# EAGLE library part OV7670 (library camera-module)
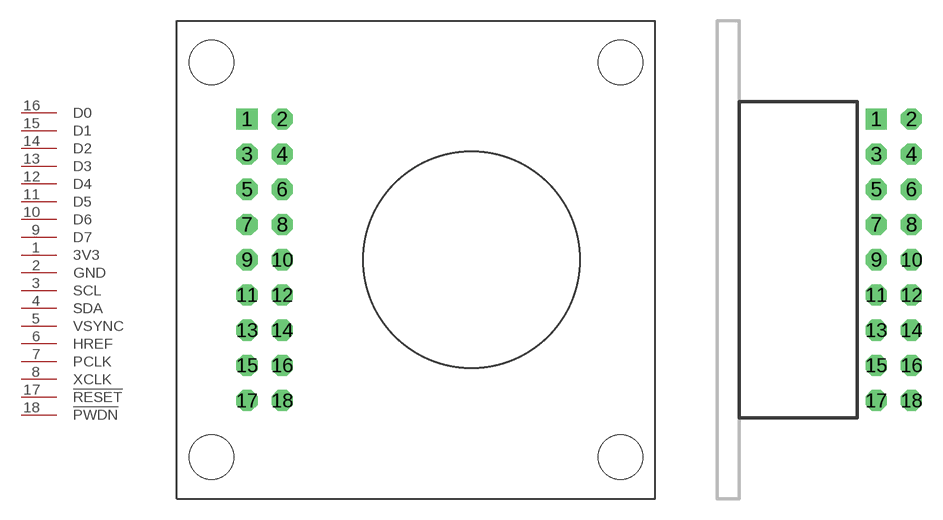
[diagram p0: symbol with the pads of OV7670; footprints OV7670, OV7670-90]

Designator prefix CAM

## OV7670  [OV7670]
1  3V3
2  GND
3  SCL
4  SDA
5  VSYNC
6  HREF
7  PCLK
8  XCLK
9  D7
10  D6
11  D5
12  D4
13  D3
14  D2
15  D1
16  D0
17  !RESET!
18  !PWDN!

## OV767090  [OV7670-90]
Pads as for OV7670

## Footprint OV7670 (pad centres in mm)
drill 1.016 square: 1 -12.19,10.16
drill 1.016 octagon: 2 -9.65,10.16; 3 -12.19,7.62; 4 -9.65,7.62; 5 -12.19,5.08; 6 -9.65,5.08; 7 -12.19,2.54; 8 -9.65,2.54; 9 -12.19,0; 10 -9.65,0; 11 -12.19,-2.54; 12 -9.65,-2.54; 13 -12.19,-5.08; 14 -9.65,-5.08; 15 -12.19,-7.62; 16 -9.65,-7.62; 17 -12.19,-10.16; 18 -9.65,-10.16
hole 3.2 at -14.75,14.25
hole 3.2 at 14.75,14.25
hole 3.2 at -14.75,-14.25
hole 3.2 at 14.75,-14.25

## Footprint OV7670-90 (pad centres in mm)
drill 1.016 square: 1 -2.54,10.16
drill 1.016 octagon: 2 0,10.16; 3 -2.54,7.62; 4 0,7.62; 5 -2.54,5.08; 6 0,5.08; 7 -2.54,2.54; 8 0,2.54; 9 -2.54,0; 10 0,0; 11 -2.54,-2.54; 12 0,-2.54; 13 -2.54,-5.08; 14 0,-5.08; 15 -2.54,-7.62; 16 0,-7.62; 17 -2.54,-10.16; 18 0,-10.16